# EAGLE library part TTP223N-BA6 (library ICs)
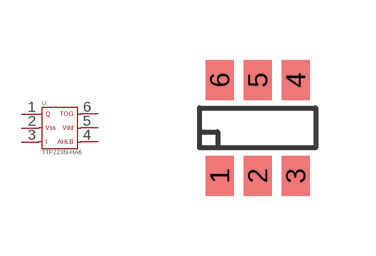
[diagram p3: symbol with the pads of SOT-23-6; footprint SOT-23-6]

Designator prefix U

## TTP223N-BA6  [SOT-23-6]
1  1  pas
2  2  pas
3  3  pas
4  4  pas
5  5  pas
6  6  pas

## Footprint SOT-23-6 (pad centres in mm)
smd 0.7 x 1: 1 -0.95,-1.2; 2 0,-1.2; 3 0.95,-1.2; 4 0.95,1.2; 5 0,1.2; 6 -0.95,1.2